# EAGLE library part LFXP6E-3FN256C (library fillament-winder)
FPGA LatticeXP Family 6000 Cells 320MHz 130nm Technology 1.2V 256-Pin FBGA Tray
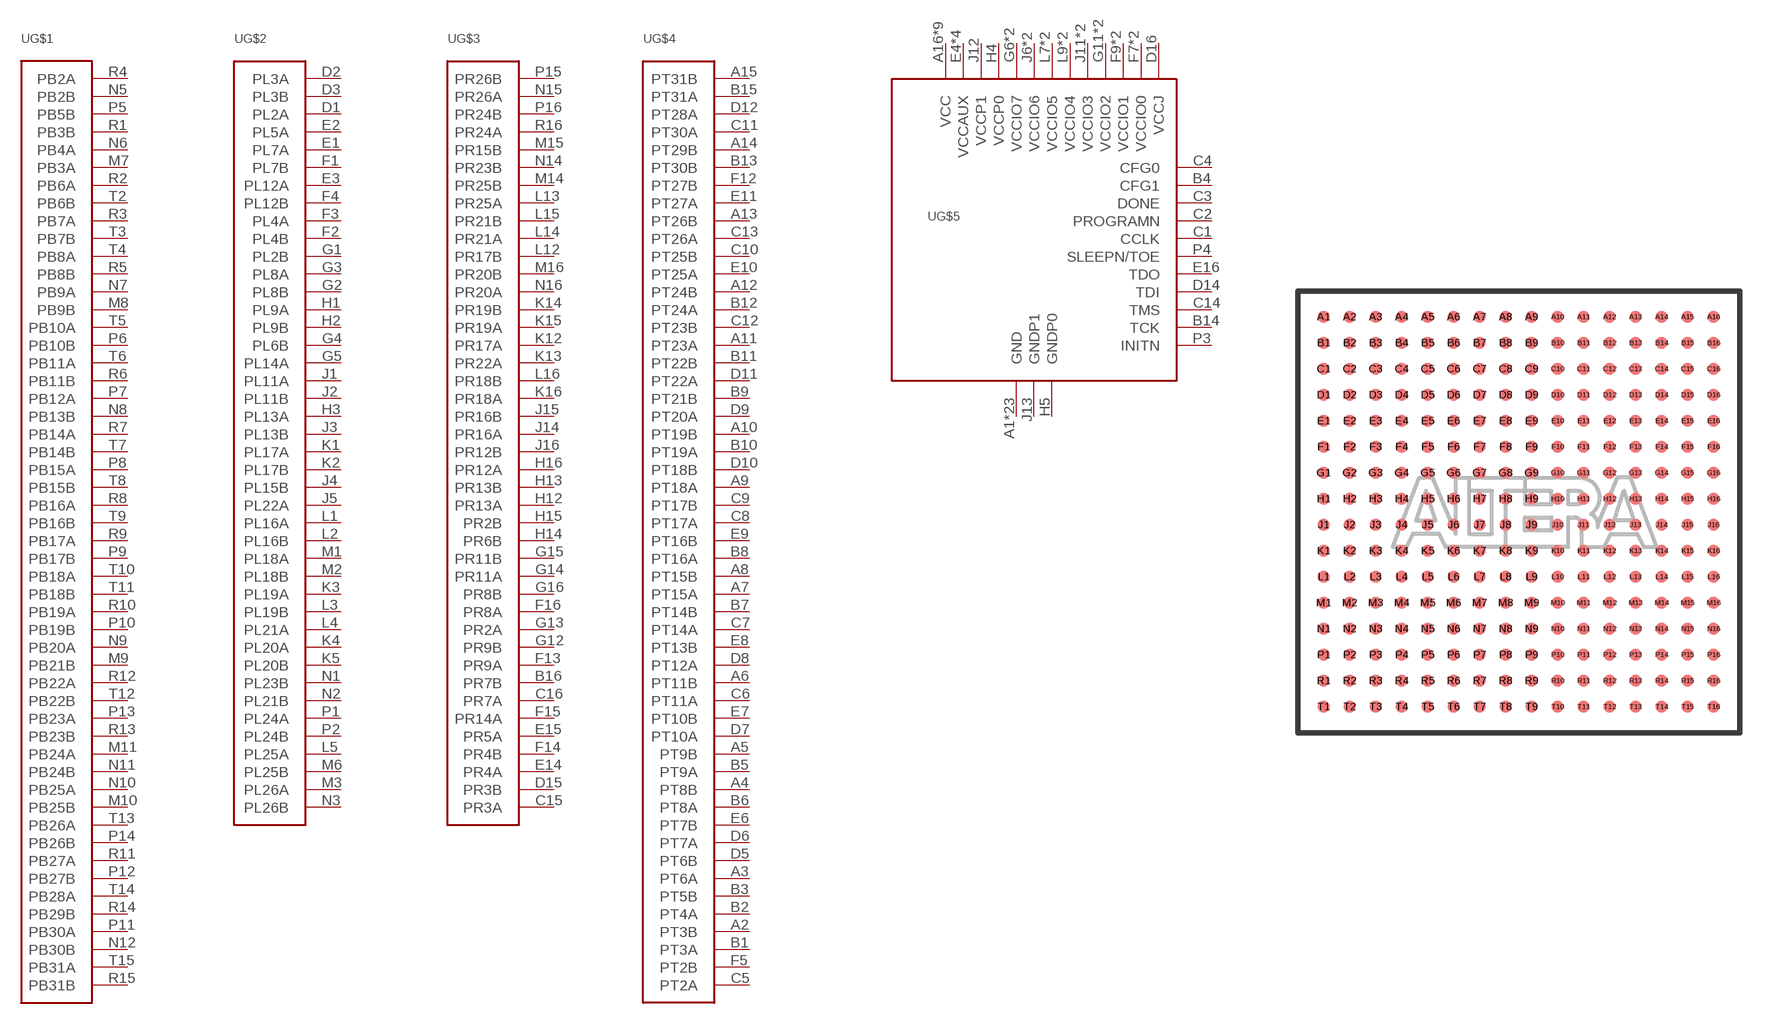
[diagram p2: symbol with the pads of FBGA256; footprint FBGA256]

Designator prefix U; gates G$1=PB G$2=PL G$3=PR G$4=PT G$5=FPGA

## LFXP6E-3FN256C  [FBGA256]
A1  G$5:GND
A2  G$4:PT3B
A3  G$4:PT6A
A4  G$4:PT8B
A5  G$4:PT9B
A6  G$4:PT11B
A7  G$4:PT15A
A8  G$4:PT15B
A9  G$4:PT18A
A10  G$4:PT19B
A11  G$4:PT23A
A12  G$4:PT24B
A13  G$4:PT26B
A14  G$4:PT29B
A15  G$4:PT31B
A16  G$5:VCC
B1  G$4:PT3A
B2  G$4:PT4A
B3  G$4:PT5B
B4  G$5:CFG1
B5  G$4:PT9A
B6  G$4:PT8A
B7  G$4:PT14B
B8  G$4:PT16A
B9  G$4:PT21B
B10  G$4:PT19A
B11  G$4:PT22B
B12  G$4:PT24A
B13  G$4:PT30B
B14  G$5:TCK
B15  G$4:PT31A
B16  G$3:PR7B
C1  G$5:CCLK
C2  G$5:PROGRAMN
C3  G$5:DONE
C4  G$5:CFG0
C5  G$4:PT2A
C6  G$4:PT11A
C7  G$4:PT14A
C8  G$4:PT17A
C9  G$4:PT17B
C10  G$4:PT25B
C11  G$4:PT30A
C12  G$4:PT23B
C13  G$4:PT26A
C14  G$5:TMS
C15  G$3:PR3A
C16  G$3:PR7A
D1  G$2:PL2A
D2  G$2:PL3A
D3  G$2:PL3B
D4  G$5:VCC
D5  G$4:PT6B
D6  G$4:PT7A
D7  G$4:PT10A
D8  G$4:PT12A
D9  G$4:PT20A
D10  G$4:PT18B
D11  G$4:PT22A
D12  G$4:PT28A
D13  G$5:VCC
D14  G$5:TDI
D15  G$3:PR3B
D16  G$5:VCCJ
E1  G$2:PL7A
E2  G$2:PL5A
E3  G$2:PL12A
E4  G$5:VCCAUX
E5  G$5:VCC
E6  G$4:PT7B
E7  G$4:PT10B
E8  G$4:PT13B
E9  G$4:PT16B
E10  G$4:PT25A
E11  G$4:PT27A
E12  G$5:VCC
E13  G$5:VCCAUX
E14  G$3:PR4A
E15  G$3:PR5A
E16  G$5:TDO
F1  G$2:PL7B
F2  G$2:PL4B
F3  G$2:PL4A
F4  G$2:PL12B
F5  G$4:PT2B
F6  G$5:GND
F7  G$5:VCCIO0
F8  G$5:VCCIO0
F9  G$5:VCCIO1
F10  G$5:VCCIO1
F11  G$5:GND
F12  G$4:PT27B
F13  G$3:PR9A
F14  G$3:PR4B
F15  G$3:PR14A
F16  G$3:PR8A
G1  G$2:PL2B
G2  G$2:PL8B
G3  G$2:PL8A
G4  G$2:PL6B
G5  G$2:PL14A
G6  G$5:VCCIO7
G7  G$5:GND
G8  G$5:GND
G9  G$5:GND
G10  G$5:GND
G11  G$5:VCCIO2
G12  G$3:PR9B
G13  G$3:PR2A
G14  G$3:PR11A
G15  G$3:PR11B
G16  G$3:PR8B
H1  G$2:PL9A
H2  G$2:PL9B
H3  G$2:PL13A
H4  G$5:VCCP0
H5  G$5:GNDP0
H6  G$5:VCCIO7
H7  G$5:GND
H8  G$5:GND
H9  G$5:GND
H10  G$5:GND
H11  G$5:VCCIO2
H12  G$3:PR13A
H13  G$3:PR13B
H14  G$3:PR6B
H15  G$3:PR2B
H16  G$3:PR12A
J1  G$2:PL11A
J2  G$2:PL11B
J3  G$2:PL13B
J4  G$2:PL15B
J5  G$2:PL22A
J6  G$5:VCCIO6
J7  G$5:GND
J8  G$5:GND
J9  G$5:GND
J10  G$5:GND
J11  G$5:VCCIO3
J12  G$5:VCCP1
J13  G$5:GNDP1
J14  G$3:PR16A
J15  G$3:PR16B
J16  G$3:PR12B
K1  G$2:PL17A
K2  G$2:PL17B
K3  G$2:PL19A
K4  G$2:PL20A
K5  G$2:PL20B
K6  G$5:VCCIO6
K7  G$5:GND
K8  G$5:GND
K9  G$5:GND
K10  G$5:GND
K11  G$5:VCCIO3
K12  G$3:PR17A
K13  G$3:PR22A
K14  G$3:PR19B
K15  G$3:PR19A
K16  G$3:PR18A
L1  G$2:PL16A
L2  G$2:PL16B
L3  G$2:PL19B
L4  G$2:PL21A
L5  G$2:PL25A
L6  G$5:GND
L7  G$5:VCCIO5
L8  G$5:VCCIO5
L9  G$5:VCCIO4
L10  G$5:VCCIO4
L11  G$5:GND
L12  G$3:PR17B
L13  G$3:PR25A
L14  G$3:PR21A
L15  G$3:PR21B
L16  G$3:PR18B
M1  G$2:PL18A
M2  G$2:PL18B
M3  G$2:PL26A
M4  G$5:VCCAUX
M5  G$5:VCC
M6  G$2:PL25B
M7  G$1:PB3A
M8  G$1:PB9B
M9  G$1:PB21B
M10  G$1:PB25B
M11  G$1:PB24A
M12  G$5:VCC
M13  G$5:VCCAUX
M14  G$3:PR25B
M15  G$3:PR15B
M16  G$3:PR20B
N1  G$2:PL23B
N2  G$2:PL21B
N3  G$2:PL26B
N4  G$5:VCC
N5  G$1:PB2B
N6  G$1:PB4A
N7  G$1:PB9A
N8  G$1:PB13B
N9  G$1:PB20A
N10  G$1:PB25A
N11  G$1:PB24B
N12  G$1:PB30B
N13  G$5:VCC
N14  G$3:PR23B
N15  G$3:PR26A
N16  G$3:PR20A
P1  G$2:PL24A
P2  G$2:PL24B
P3  G$5:INITN
P4  G$5:SLEEPN/TOE
P5  G$1:PB5B
P6  G$1:PB10B
P7  G$1:PB12A
P8  G$1:PB15A
P9  G$1:PB17B
P10  G$1:PB19B
P11  G$1:PB30A
P12  G$1:PB27B
P13  G$1:PB23A
P14  G$1:PB26B
P15  G$3:PR26B
P16  G$3:PR24B
R1  G$1:PB3B
R2  G$1:PB6A
R3  G$1:PB7A
R4  G$1:PB2A
R5  G$1:PB8B
R6  G$1:PB11B
R7  G$1:PB14A
R8  G$1:PB16A
R9  G$1:PB17A
R10  G$1:PB19A
R11  G$1:PB27A
R12  G$1:PB22A
R13  G$1:PB23B
R14  G$1:PB29B
R15  G$1:PB31B
R16  G$3:PR24A
T1  G$5:GND
T2  G$1:PB6B
T3  G$1:PB7B
T4  G$1:PB8A
T5  G$1:PB10A
T6  G$1:PB11A
T7  G$1:PB14B
T8  G$1:PB15B
T9  G$1:PB16B
T10  G$1:PB18A
T11  G$1:PB18B
T12  G$1:PB22B
T13  G$1:PB26A
T14  G$1:PB28A
T15  G$1:PB31A
T16  G$5:GND

## Footprint FBGA256 (pad centres in mm)
Fine Ball Grid Array
smd 0.45 x 0.45: A1 -7.5,7.5; A2 -6.5,7.5; A3 -5.5,7.5; A4 -4.5,7.5; A5 -3.5,7.5; A6 -2.5,7.5; A7 -1.5,7.5; A8 -0.5,7.5; A9 0.5,7.5; A10 1.5,7.5; A11 2.5,7.5; A12 3.5,7.5; A13 4.5,7.5; A14 5.5,7.5; A15 6.5,7.5; A16 7.5,7.5; B1 -7.5,6.5; B2 -6.5,6.5; B3 -5.5,6.5; B4 -4.5,6.5; B5 -3.5,6.5; B6 -2.5,6.5; B7 -1.5,6.5; B8 -0.5,6.5; B9 0.5,6.5; B10 1.5,6.5; B11 2.5,6.5; B12 3.5,6.5; B13 4.5,6.5; B14 5.5,6.5; B15 6.5,6.5; B16 7.5,6.5; C1 -7.5,5.5; C2 -6.5,5.5; C3 -5.5,5.5; C4 -4.5,5.5; C5 -3.5,5.5; C6 -2.5,5.5; C7 -1.5,5.5; C8 -0.5,5.5; C9 0.5,5.5; C10 1.5,5.5; C11 2.5,5.5; C12 3.5,5.5; C13 4.5,5.5; C14 5.5,5.5; C15 6.5,5.5; C16 7.5,5.5; D1 -7.5,4.5; D2 -6.5,4.5; D3 -5.5,4.5; D4 -4.5,4.5; D5 -3.5,4.5; D6 -2.5,4.5; D7 -1.5,4.5; D8 -0.5,4.5; D9 0.5,4.5; D10 1.5,4.5; D11 2.5,4.5; D12 3.5,4.5; D13 4.5,4.5; D14 5.5,4.5; D15 6.5,4.5; D16 7.5,4.5; E1 -7.5,3.5; E2 -6.5,3.5; E3 -5.5,3.5; E4 -4.5,3.5; E5 -3.5,3.5; E6 -2.5,3.5; E7 -1.5,3.5; E8 -0.5,3.5; E9 0.5,3.5; E10 1.5,3.5; E11 2.5,3.5; E12 3.5,3.5; E13 4.5,3.5; E14 5.5,3.5; E15 6.5,3.5; E16 7.5,3.5; F1 -7.5,2.5; F2 -6.5,2.5; F3 -5.5,2.5; F4 -4.5,2.5; F5 -3.5,2.5; F6 -2.5,2.5; F7 -1.5,2.5; F8 -0.5,2.5; F9 0.5,2.5; F10 1.5,2.5; F11 2.5,2.5; F12 3.5,2.5; F13 4.5,2.5; F14 5.5,2.5; F15 6.5,2.5; F16 7.5,2.5; G1 -7.5,1.5; G2 -6.5,1.5; G3 -5.5,1.5; G4 -4.5,1.5; G5 -3.5,1.5; G6 -2.5,1.5; G7 -1.5,1.5; G8 -0.5,1.5; G9 0.5,1.5; G10 1.5,1.5; G11 2.5,1.5; G12 3.5,1.5; G13 4.5,1.5; G14 5.5,1.5; G15 6.5,1.5; G16 7.5,1.5; H1 -7.5,0.5; H2 -6.5,0.5; H3 -5.5,0.5; H4 -4.5,0.5; H5 -3.5,0.5; H6 -2.5,0.5; H7 -1.5,0.5; H8 -0.5,0.5; H9 0.5,0.5; H10 1.5,0.5; H11 2.5,0.5; H12 3.5,0.5; H13 4.5,0.5; H14 5.5,0.5; H15 6.5,0.5; H16 7.5,0.5; J1 -7.5,-0.5; J2 -6.5,-0.5; J3 -5.5,-0.5; J4 -4.5,-0.5; J5 -3.5,-0.5; J6 -2.5,-0.5; J7 -1.5,-0.5; J8 -0.5,-0.5; J9 0.5,-0.5; J10 1.5,-0.5; J11 2.5,-0.5; J12 3.5,-0.5; J13 4.5,-0.5; J14 5.5,-0.5; J15 6.5,-0.5; J16 7.5,-0.5; K1 -7.5,-1.5; K2 -6.5,-1.5; K3 -5.5,-1.5; K4 -4.5,-1.5; K5 -3.5,-1.5; K6 -2.5,-1.5; K7 -1.5,-1.5; K8 -0.5,-1.5; K9 0.5,-1.5; K10 1.5,-1.5; K11 2.5,-1.5; K12 3.5,-1.5; K13 4.5,-1.5; K14 5.5,-1.5; K15 6.5,-1.5; K16 7.5,-1.5; L1 -7.5,-2.5; L2 -6.5,-2.5; L3 -5.5,-2.5; L4 -4.5,-2.5; L5 -3.5,-2.5; L6 -2.5,-2.5; L7 -1.5,-2.5; L8 -0.5,-2.5; L9 0.5,-2.5; L10 1.5,-2.5; L11 2.5,-2.5; L12 3.5,-2.5; L13 4.5,-2.5; L14 5.5,-2.5; L15 6.5,-2.5; L16 7.5,-2.5; M1 -7.5,-3.5; M2 -6.5,-3.5; M3 -5.5,-3.5; M4 -4.5,-3.5; M5 -3.5,-3.5; M6 -2.5,-3.5; M7 -1.5,-3.5; M8 -0.5,-3.5; M9 0.5,-3.5; M10 1.5,-3.5; M11 2.5,-3.5; M12 3.5,-3.5; M13 4.5,-3.5; M14 5.5,-3.5; M15 6.5,-3.5; M16 7.5,-3.5; N1 -7.5,-4.5; N2 -6.5,-4.5; N3 -5.5,-4.5; N4 -4.5,-4.5; N5 -3.5,-4.5; N6 -2.5,-4.5; N7 -1.5,-4.5; N8 -0.5,-4.5; N9 0.5,-4.5; N10 1.5,-4.5; N11 2.5,-4.5; N12 3.5,-4.5; N13 4.5,-4.5; N14 5.5,-4.5; N15 6.5,-4.5; N16 7.5,-4.5; P1 -7.5,-5.5; P2 -6.5,-5.5; P3 -5.5,-5.5; P4 -4.5,-5.5; P5 -3.5,-5.5; P6 -2.5,-5.5; P7 -1.5,-5.5; P8 -0.5,-5.5; P9 0.5,-5.5; P10 1.5,-5.5; P11 2.5,-5.5; P12 3.5,-5.5; P13 4.5,-5.5; P14 5.5,-5.5; P15 6.5,-5.5; P16 7.5,-5.5; R1 -7.5,-6.5; R2 -6.5,-6.5; R3 -5.5,-6.5; R4 -4.5,-6.5; R5 -3.5,-6.5; R6 -2.5,-6.5; R7 -1.5,-6.5; R8 -0.5,-6.5; R9 0.5,-6.5; R10 1.5,-6.5; R11 2.5,-6.5; R12 3.5,-6.5; R13 4.5,-6.5; R14 5.5,-6.5; R15 6.5,-6.5; R16 7.5,-6.5; T1 -7.5,-7.5; T2 -6.5,-7.5; T3 -5.5,-7.5; T4 -4.5,-7.5; T5 -3.5,-7.5; T6 -2.5,-7.5; T7 -1.5,-7.5; T8 -0.5,-7.5; T9 0.5,-7.5; T10 1.5,-7.5; T11 2.5,-7.5; T12 3.5,-7.5; T13 4.5,-7.5; T14 5.5,-7.5; T15 6.5,-7.5; T16 7.5,-7.5